# EAGLE library part LT1167 (library Gemelke_Lab)
Instrumentation Amplifier
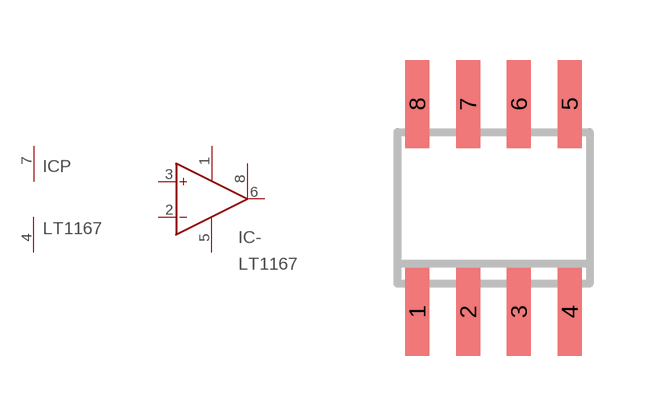
[diagram p0: symbol with the pads of SOIC8; footprint SOIC8]

Designator prefix IC; gates -=IA P=PWR+- G=GAINSET

## LT1167SOIC  [SOIC8]
1  G:GSETA  pas
2  -:IN-  in
3  -:IN+  in
4  P:V-  pwr
5  -:REF
6  -:OUT  out
7  P:V+  pwr
8  G:GSETB  pas

## Footprint SOIC8 (pad centres in mm)
Small Outline IC
smd 0.6 x 2.2: 1 -1.905,-2.6; 2 -0.635,-2.6; 3 0.635,-2.6; 4 1.905,-2.6; 5 1.905,2.6; 6 0.635,2.6; 7 -0.635,2.6; 8 -1.905,2.6